# EAGLE library part RTC-DS* (library mx4660-cape)
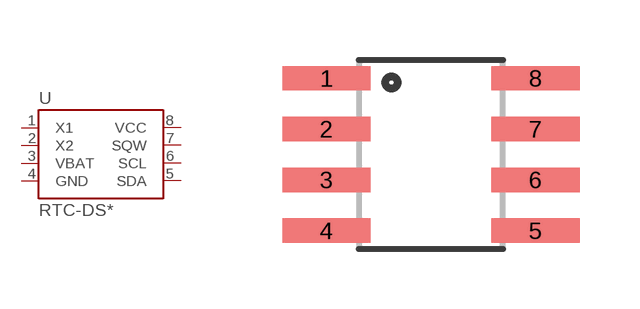
[diagram p3: symbol with the pads of SOIC-8-2; footprint SOIC-8-2]

Designator prefix U

## RTC-DS  [SOIC-8-2]
1  X1
2  X2
3  VBAT
4  GND
5  SDA
6  SCL
7  SQW
8  VCC

## Footprint SOIC-8-2 (pad centres in mm)
Small Outline Package Fits JEDEC packages (narrow SOIC-8)
smd 2.21 x 0.61: 1 -2.616,1.905; 2 -2.616,0.635; 3 -2.616,-0.635; 4 -2.616,-1.905; 5 2.616,-1.905; 6 2.616,-0.635; 7 2.616,0.635; 8 2.616,1.905